# Altium footprint library MY.PcbLib: 177 footprints (part 8 of 12)
Each footprint in its own frame and in the unit in brackets; x right, y up, seen from the top. Pads: shape width x height; smd on the part's side, far side on the other; paste and mask are expansions set on the pad; w line width, h text height; cw(c..) or ccw(c..) is an arc to the next point about the centre after c.
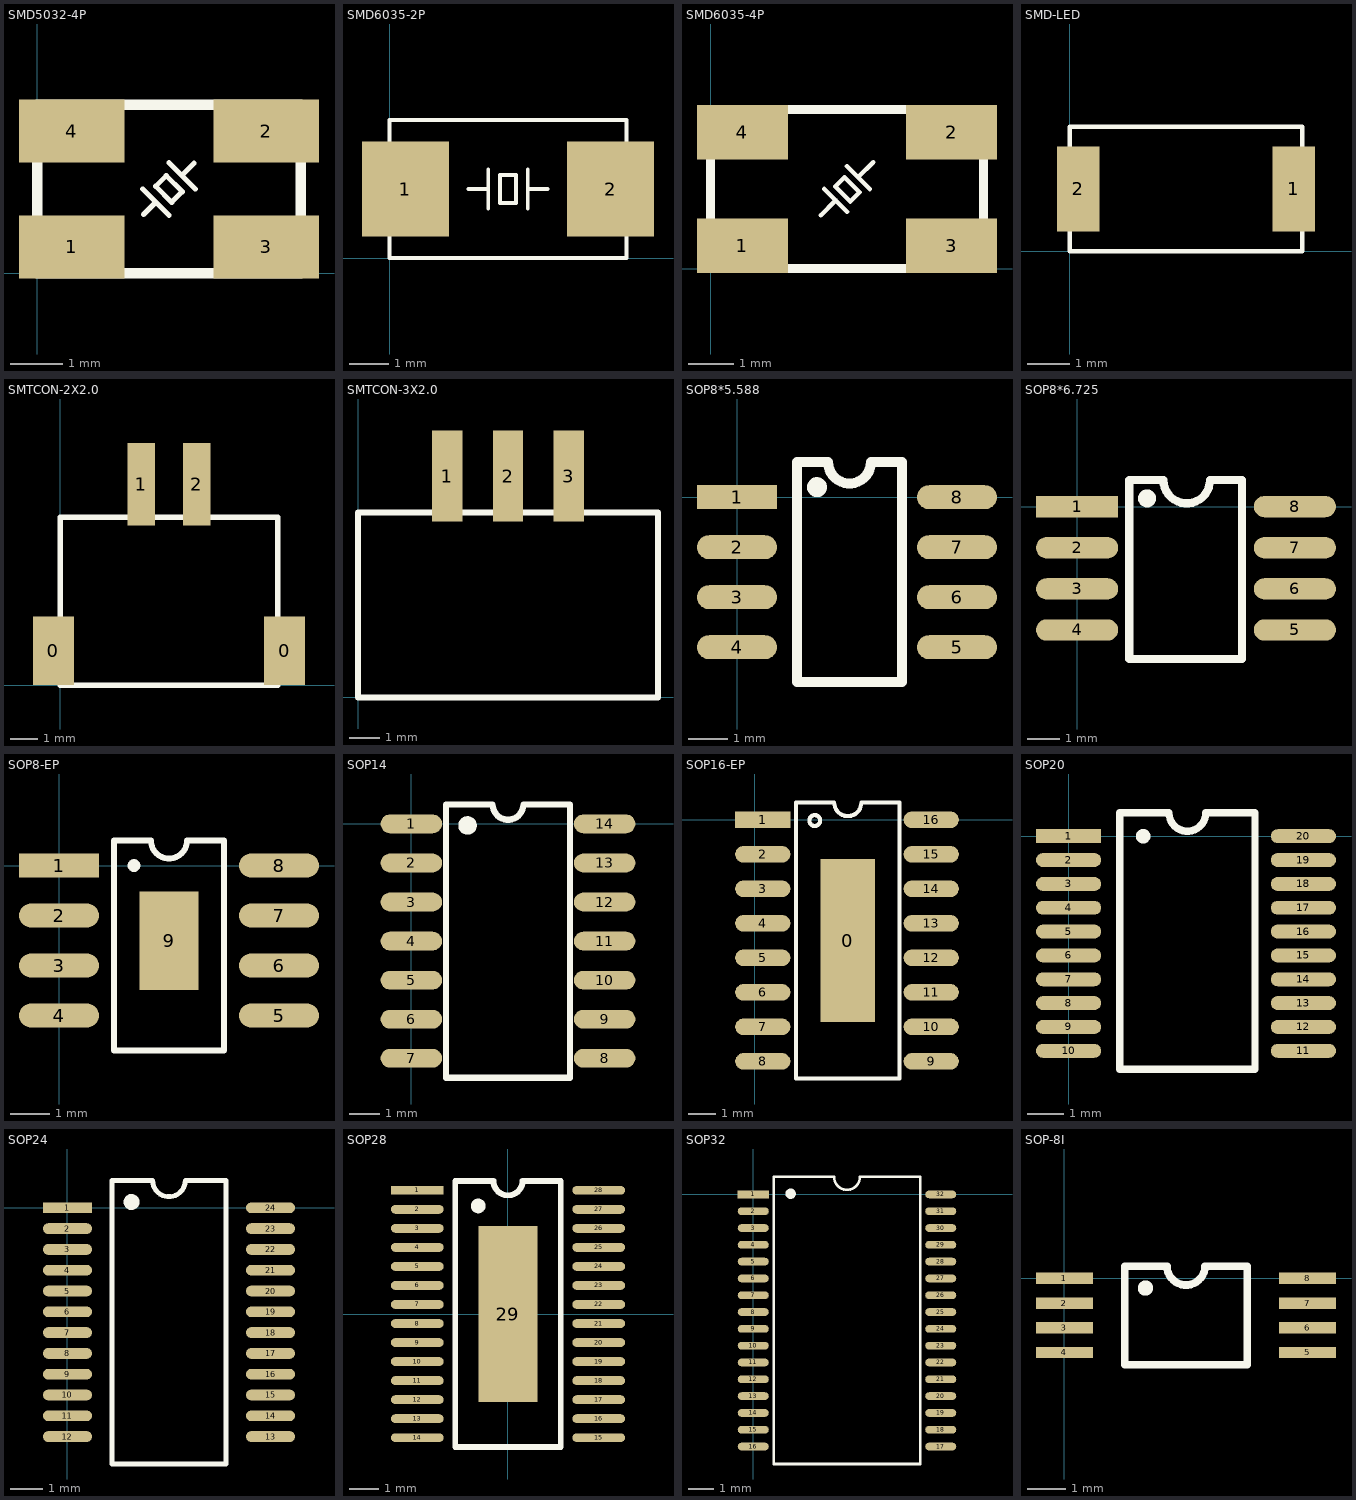
[diagram p7: the footprints below, top view; thin cyan lines are the x and y axes]

## SMD5032-4P [mm]
pads (4):
  rect 2x1.2 smd: 1(0.65,0.5) 2(4.35,2.7) 3(4.35,0.5) 4(0.65,2.7)
Top Overlay:
  lines w0.1: 2.018,1.118 2.25,1.35 ; 2.5,1.1 2,1.6 ; 2.5,2.1 3,1.6 ; 2.743,1.857 2.976,2.089 ; 2,1.6 2,1.6 ; 2.249,1.651 2.551,1.349 2.751,1.549 2.449,1.851 2.249,1.651
  lines w0.2: 0,0 5,0 5,3.2 0,3.2 0,0

## SMD6035-2P [mm]
pads (2):
  rect 2.2x2.4 smd: 1(0.4,1.75) 2(5.6,1.75)
Top Overlay:
  lines w0.1: 2,1.75 2.5,1.75 ; 2.5,1.25 2.5,2.25 ; 3.5,1.25 3.5,2.25 ; 3.5,1.75 4,1.75 ; 0,0 0,3.5 6,3.5 6,0 0,0 ; 2.8,1.4 3.2,1.4 3.2,2.1 2.8,2.1 2.8,1.4

## SMD6035-4P [mm]
pads (4):
  rect 2x1.2 smd: 1(0.7,0.5) 2(5.3,3) 3(5.3,0.5) 4(0.7,3)
Top Overlay:
  lines w0.1: 2.421,1.168 2.751,1.499 ; 2.5,1.75 3,1.25 ; 3.243,2.007 3.574,2.337 ; 3.5,1.75 3,2.25 ; 3,1.25 3,1.25 ; 3,2.25 3,2.25 ; 2.745,1.805 3.075,1.475 3.275,1.675 2.945,2.005 2.745,1.805
  lines w0.2: 0,0 0,3.5 6,3.5 6,0 0,0

## SMD-LED [mm]
pads (2):
  rect 1x2 smd: 1(5.3,1.475) 2(0.2,1.475)
Top Overlay:
  lines w0.1: 0,0 5.5,0 5.5,2.95 0,2.95 0,0

## SMTCON-2X2.0 [mm]
pads (4):
  rect 1.5x2.5 smd: 0(-0.25,1.25) 0(8.15,1.25)
  rect 1x3 smd: 1(2.95,7.3) 2(4.95,7.3)
Top Overlay:
  lines w0.2: 0,0 0,6.1 7.9,6.1 7.9,0 0,0

## SMTCON-3X2.0 [mm]
pads (3):
  rect 1x3 smd: 1(2.95,7.3) 2(4.95,7.3) 3(6.95,7.3)
Top Overlay:
  lines w0.2: 0,0 0,6.1 9.9,6.1 9.9,0 0,0

## SOP8*5.588 [mil]
pads (8):
  rect 80x24.02 smd: 1(0,0)
  oval 80x24.02 smd: 2(0,-50) 3(0,-100) 5(220,-150) 6(220,-100) 7(220,-50) 8(220,0)
  oval 80x24.02 smd mask+4: 4(0,-150)
Top Overlay:
  circle w10: c80,10 r5
  lines w10: 60,-185 60,35 91.14,35 ccw(c112.5,35) 133.86,35 165,35 165,-185 60,-185

## SOP8*6.725 [mm]
pads (8):
  rect 2.54x0.66 smd: 1(0,0)
  oval 2.54x0.66 smd: 2(0,-1.27) 3(0,-2.54) 4(0,-3.81) 5(6.725,-3.81) 6(6.725,-2.54) 7(6.725,-1.27) 8(6.725,0)
Top Overlay:
  circle w0.3: c2.159,0.254 r0.127
  lines w0.254: 1.611,-4.703 5.088,-4.703 5.088,0.818 4.102,0.818 cw(c3.384,0.818) 2.667,0.818 1.611,0.818 1.611,-4.703

## SOP8-EP [mil]
pads (9):
  rect 80x24.02 smd: 1(0,0)
  oval 80x24.02 smd: 2(0,-50) 3(0,-100) 4(0,-150) 5(220,-150) 6(220,-100) 7(220,-50) 8(220,0)
  rect 59.06x98.43 all layers, no hole: 9(110,-75.2)
Top Overlay:
  circle w11.81: c75,0 r0.39
  lines w5.91: 55,-185 165,-185 165,25 128.03,25 cw(c110,25) 91.97,25 55,25 55,-185

## SOP14 [mm]
pads (14):
  oval 2x0.61 smd: 1(0,0) 2(0,-1.27) 3(0,-2.54) 4(0,-3.81) 5(0,-5.08) 6(0,-6.35) 7(0,-7.62) 8(6.288,-7.62) 9(6.288,-6.35) 10(6.288,-5.08) 11(6.288,-3.81) 12(6.288,-2.54) 13(6.288,-1.27) 14(6.288,0)
Top Overlay:
  circle w0.3: c1.829,-0.051 r0.15
  lines w0.2: 1.124,-8.255 5.164,-8.255 5.164,0.635 3.644,0.635 cw(c3.144,0.635) 2.644,0.635 1.124,0.635 1.124,-8.255

## SOP16-EP [mm]
pads (17):
  rect 2x6 all layers, no hole: 0(3.429,-4.445)
  rect 2.032x0.61 smd: 1(0.3,0)
  oval 2.032x0.61 smd: 2(0.3,-1.27) 3(0.3,-2.54) 4(0.3,-3.81) 5(0.3,-5.08) 6(0.3,-6.35) 7(0.3,-7.62) 8(0.3,-8.89) 9(6.5,-8.89) 10(6.5,-7.62) 11(6.5,-6.35) 12(6.5,-5.08) 13(6.5,-3.81) 14(6.5,-2.54) 15(6.5,-1.27) 16(6.5,0)
Top Overlay:
  circle w0.15: c2.213,-0.025 r0.2
  lines w0.15: 1.524,-9.525 1.524,0.635 2.929,0.635 ccw(c3.429,0.635) 3.929,0.635 5.334,0.635 5.334,-9.525 1.524,-9.525

## SOP20 [mil]
pads (20):
  rect 70x15 smd: 1(0,0)
  oval 70x15 smd: 2(0,-25.59) 3(0,-51.18) 4(0,-76.77) 5(0,-102.36) 6(0,-127.95) 7(0,-153.54) 8(0,-179.13) 9(0,-204.72) 10(0,-230.31) 11(251.97,-230.31) 12(251.97,-204.72) 13(251.97,-179.13) 14(251.97,-153.54) 15(251.97,-127.95) 16(251.97,-102.36) 17(251.97,-76.77) 18(251.97,-51.18) 19(251.97,-25.59) 20(251.97,0)
Top Overlay:
  circle w7.87: c80,0 r3.94
  lines w7.87: 55,-250 200,-250 200,25 147.19,25 cw(c127.5,25) 107.81,25 55,25 55,-250

## SOP24 [mm]
pads (24):
  rect 1.5x0.33 smd: 1(0,0)
  oval 1.5x0.33 smd: 2(0,-0.635) 3(0,-1.27) 4(0,-1.905) 5(0,-2.54) 6(0,-3.175) 7(0,-3.81) 8(0,-4.445) 9(0,-5.08) 10(0,-5.715) 11(0,-6.35) 12(0,-6.985) 13(6.2,-6.985) 14(6.2,-6.35) 15(6.2,-5.715) 16(6.2,-5.08) 17(6.2,-4.445) 18(6.2,-3.81) 19(6.2,-3.175) 20(6.2,-2.54) 21(6.2,-1.905) 22(6.2,-1.27) 23(6.2,-0.635) 24(6.2,0)
Top Overlay:
  circle w0.3: c1.956,0.178 r0.092
  lines w0.15: 3.599,0.838 cw(c3.099,0.838) 2.599,0.838 1.361,0.838 1.361,-7.822 4.838,-7.822 4.838,0.838 3.6,0.838

## SOP28 [mm]
pads (29):
  rect 1.8x0.3 smd: 1(-3.1,4.225)
  oval 1.8x0.3 smd: 2(-3.1,3.575) 3(-3.1,2.925) 4(-3.1,2.275) 5(-3.1,1.625) 6(-3.1,0.975) 7(-3.1,0.325) 8(-3.1,-0.325) 9(-3.1,-0.975) 10(-3.1,-1.625) 11(-3.1,-2.275) 12(-3.1,-2.925) 13(-3.1,-3.575) 14(-3.1,-4.225) 15(3.1,-4.225) 16(3.1,-3.575) 17(3.1,-2.925) 18(3.1,-2.275) 19(3.1,-1.625) 20(3.1,-0.975) 21(3.1,-0.325) 22(3.1,0.325) 23(3.1,0.975) 24(3.1,1.625) 25(3.1,2.275) 26(3.1,2.925) 27(3.1,3.575) 28(3.1,4.225)
  rect 2x6 all layers, no hole: 29(0,0)
Top Overlay:
  circle w0.3: c-1.017,3.692 r0.1
  lines w0.2: -0.5,4.55 -1.8,4.55 -1.8,-4.55 1.8,-4.55 1.8,4.55 0.5,4.55 ; -0.5,4.555 ccw(c0,4.555) 0.5,4.555

## SOP32 [mm]
pads (32):
  rect 1.2x0.3 smd: 1(0,0)
  oval 1.2x0.3 smd: 2(0,-0.65) 3(0,-1.3) 4(0,-1.95) 5(0,-2.6) 6(0,-3.25) 7(0,-3.9) 8(0,-4.55) 9(0,-5.2) 10(0,-5.85) 11(0,-6.5) 12(0,-7.15) 13(0,-7.8) 14(0,-8.45) 15(0,-9.1) 16(0,-9.75) 17(7.25,-9.75) 18(7.25,-9.1) 19(7.25,-8.45) 20(7.25,-7.8) 21(7.25,-7.15) 22(7.25,-6.5) 23(7.25,-5.85) 24(7.25,-5.2) 25(7.25,-4.55) 26(7.25,-3.9) 27(7.25,-3.25) 28(7.25,-2.6) 29(7.25,-1.95) 30(7.25,-1.3) 31(7.25,-0.65) 32(7.25,0)
Top Overlay:
  circle w0.2: c1.445,0.025 r0.1
  lines w0.1: 0.8,-10.425 6.45,-10.425 6.45,0.675 4.125,0.675 cw(c3.625,0.675) 3.125,0.675 0.8,0.675 0.8,-10.425

## SOP-8I [mm]
pads (8):
  rect 1.5x0.3 smd: 1(0,0) 2(0,-0.65) 3(0,-1.3) 4(0,-1.95) 5(6.4,-1.95) 6(6.4,-1.3) 7(6.4,-0.65) 8(6.4,0)
Top Overlay:
  circle w0.3: c2.134,-0.254 r0.051
  lines w0.2: 1.585,-2.275 1.585,0.325 2.7,0.325 ccw(c3.2,0.325) 3.7,0.325 4.815,0.325 4.815,-2.275 1.585,-2.275